# Altium footprint library 0402_Ceramic_Capacitor.PcbLib: 1 footprints
Each footprint in its own frame and in the unit in brackets; x right, y up, seen from the top. Pads: shape width x height; smd on the part's side, far side on the other; paste and mask are expansions set on the pad; w line width, h text height; cw(c..) or ccw(c..) is an arc to the next point about the centre after c.
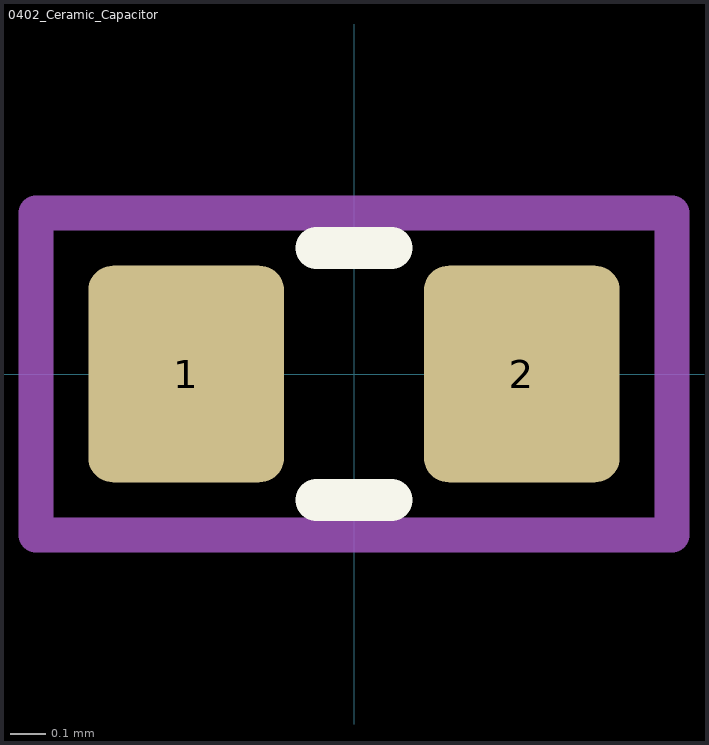
[diagram p0: the footprint, top view; thin cyan lines are the x and y axes]

## 0402_Ceramic_Capacitor [mm]
pads (2):
  rrect25% 0.56x0.62 smd: 1(-0.48,0) 2(0.48,0)
Top Overlay:
  lines w0.12: -0.108,-0.36 0.108,-0.36 ; -0.108,0.36 0.108,0.36
Mechanical 1:
  lines w0.1: -0.91,-0.46 0.91,-0.46 0.91,0.46 -0.91,0.46 -0.91,-0.46
  text ".Designator" at -0.127,-0.031 h0.51
Mechanical 15:
  text "+" at -0.167,-0.25 h0.5
3D body "C0402.stp": height 0.5, standoff 0, extent -0.5,-0.246 0.5,0.254